# EAGLE library part MAX485ESA (library DougsLab)
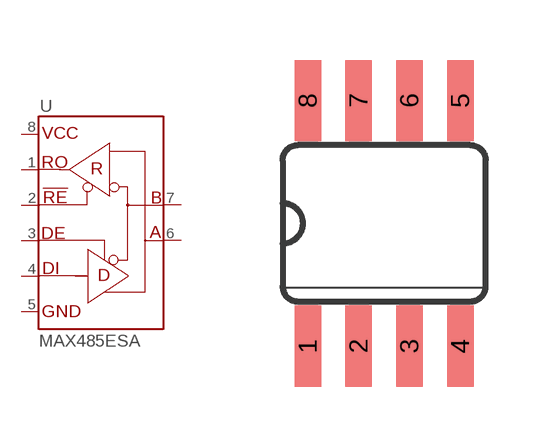
[diagram p2: symbol with the pads of SO08; footprint SO08]

Designator prefix U

## MAX485ESA  [SO08]
1  RO  out
2  !RE  out
3  DE  in
4  DI  in
5  GND  pwr
6  A
7  B
8  VCC  pwr

## Footprint SO08 (pad centres in mm)
Small Outline Package SOIC 150 mil
smd 0.66 x 2.032: 1 -1.905,-3.073; 2 -0.635,-3.073; 3 0.635,-3.073; 4 1.905,-3.073; 5 1.905,3.073; 6 0.635,3.073; 7 -0.635,3.073; 8 -1.905,3.073